# Altium schematic symbol library SBB5089Z.SchLib: 1 symbol
Pins are listed as number, name and electrical type; pins without a type are passive.

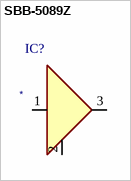
[diagram p0: symbol SBB-5089Z]

## SBB-5089Z
designator IC?
ID: SBB-5089Z; PDF: http://www.rfmd.com/CS/Documents/SBB5089ZDS.pdf; BUY_LINK: http://www.digikey.com/product-detail/en/SBB-5089Z/599-1007-1-ND/936981; PRICE: 3.90000
footprint SOT89
pins: 1, 2, 3